# Altium footprint library PartsDatabaseV12.PcbLib: 97 footprints (part 1 of 7)
Each footprint in its own frame and in the unit in brackets; x right, y up, seen from the top. Pads: shape width x height; smd on the part's side, far side on the other; paste and mask are expansions set on the pad; w line width, h text height; cw(c..) or ccw(c..) is an arc to the next point about the centre after c.
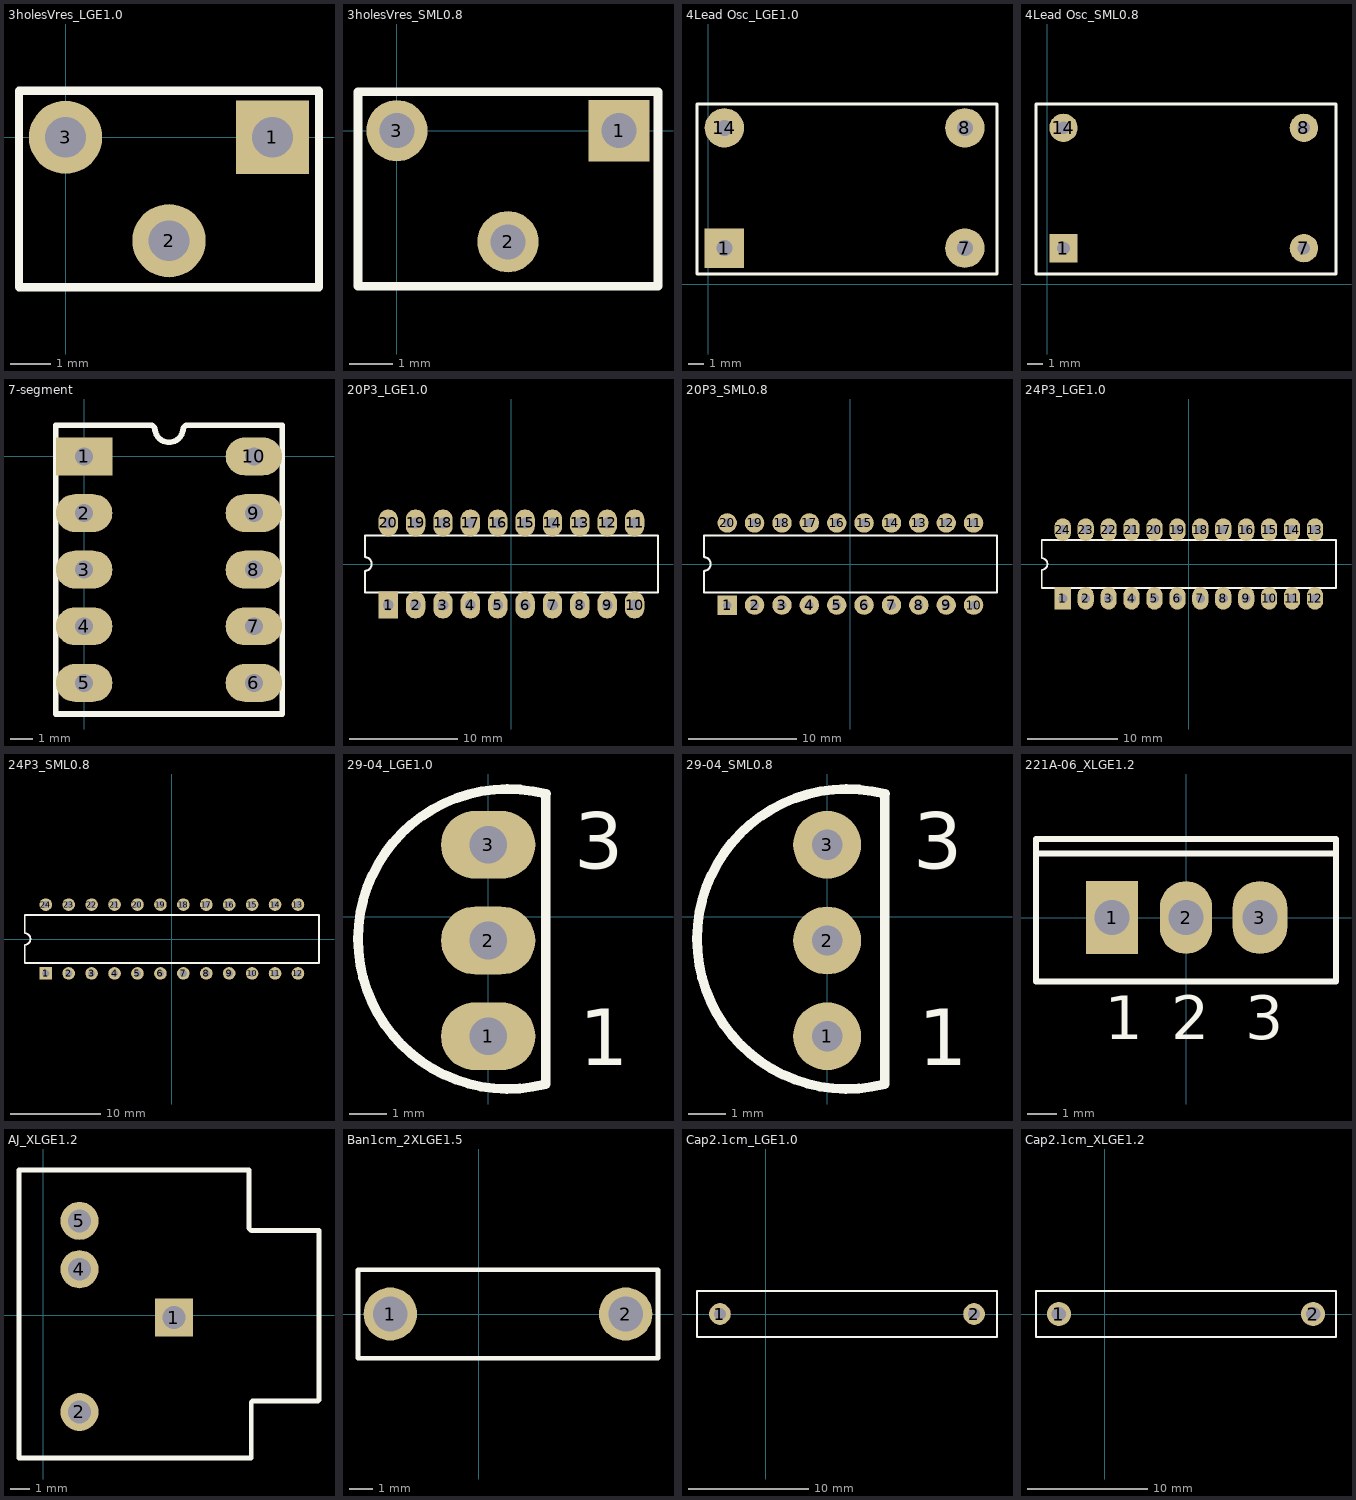
[diagram p0: the footprints below, top view; thin cyan lines are the x and y axes]

## 3holesVres_LGE1.0 [mm] "Variable Resistor, Thru-Hole; 3 Leads"
pads (3):
  rect 1.8x1.8 hole 1: 1(5.08,0)
  round 1.8 hole 1: 2(2.54,-2.54) 3(0,0)
Top Overlay:
  lines w0.2: -1.143,-3.683 6.223,-3.683 6.223,1.143 -1.143,1.143 -1.143,-3.683

## 3holesVres_SML0.8 [mm] "Variable Resistor, Thru-Hole; 3 Leads"
pads (3):
  rect 1.4x1.4 hole 0.8: 1(5.08,0)
  round 1.4 hole 0.8: 2(2.54,-2.54) 3(0,0)
Top Overlay:
  lines w0.2: -0.889,-3.556 5.969,-3.556 5.969,0.889 -0.889,0.889 -0.889,-3.556

## 4Lead Osc_LGE1.0 [mm] "Double-Pole, Single-Throw Switch; 4 Leads"
pads (4):
  rect 2.5x2.5 hole 1: 1(1.016,2.286)
  round 2.5 hole 1: 7(16.256,2.286) 8(16.256,9.906) 14(1.016,9.906)
Top Overlay:
  lines w0.2: -0.724,0.635 -0.724,11.43 18.288,11.43 18.288,0.635 -0.724,0.635

## 4Lead Osc_SML0.8 [mm] "Double-Pole, Single-Throw Switch; 4 Leads"
pads (4):
  rect 1.8x1.8 hole 0.8: 1(1.016,2.286)
  round 1.8 hole 0.8: 7(16.256,2.286) 8(16.256,9.906) 14(1.016,9.906)
Top Overlay:
  lines w0.2: -0.724,0.635 -0.724,11.43 18.288,11.43 18.288,0.635 -0.724,0.635

## 7-segment [mm]
pads (10):
  rect 2.54x1.7 hole 0.8: 1(0,0)
  oval 2.54x1.7 hole 0.8: 2(0,-2.54) 3(0,-5.08) 4(0,-7.62) 5(0,-10.16) 6(7.62,-10.16) 7(7.62,-7.62) 8(7.62,-5.08) 9(7.62,-2.54) 10(7.62,0)
Top Overlay:
  lines w0.254: -1.27,-11.557 -1.27,1.397 3.048,1.397 3.175,1.27 ccw(c3.81,1.27) 4.445,1.27 4.572,1.397 8.89,1.397 8.89,-11.557 -1.27,-11.557

## 20P3_LGE1.0 [mm] "DIP; 20 Leads; Row Spacing 7.62 mm; Pitch 2.54 mm"
height 5.33
pads (20):
  rect 1.8x2.5 hole 1: 1(-11.43,-3.81)
  oval 1.8x2.5 hole 1: 2(-8.89,-3.81) 3(-6.35,-3.81) 4(-3.81,-3.81) 5(-1.27,-3.81) 6(1.27,-3.81) 7(3.81,-3.81) 8(6.35,-3.81) 9(8.89,-3.81) 10(11.43,-3.81) 11(11.43,3.81) 12(8.89,3.81) 13(6.35,3.81) 14(3.81,3.81) 15(1.27,3.81) 16(-1.27,3.81) 17(-3.81,3.81) 18(-6.35,3.81) 19(-8.89,3.81) 20(-11.43,3.81)
Top Overlay:
  lines w0.2: -13.6,-2.65 13.6,-2.65 13.6,2.65 -13.6,2.65 -13.6,0.635 cw(c-13.6,0) -13.6,-0.635 -13.6,-2.65

## 20P3_SML0.8 [mm] "DIP; 20 Leads; Row Spacing 7.62 mm; Pitch 2.54 mm"
height 5.33
pads (20):
  rect 1.8x1.8 hole 0.8: 1(-11.43,-3.81)
  round 1.8 hole 0.8: 2(-8.89,-3.81) 3(-6.35,-3.81) 4(-3.81,-3.81) 5(-1.27,-3.81) 6(1.27,-3.81) 7(3.81,-3.81) 8(6.35,-3.81) 9(8.89,-3.81) 10(11.43,-3.81) 11(11.43,3.81) 12(8.89,3.81) 13(6.35,3.81) 14(3.81,3.81) 15(1.27,3.81) 16(-1.27,3.81) 17(-3.81,3.81) 18(-6.35,3.81) 19(-8.89,3.81) 20(-11.43,3.81)
Top Overlay:
  lines w0.2: -13.6,-2.65 -13.6,-0.635 ccw(c-13.6,0) -13.6,0.635 -13.6,2.65 13.6,2.65 13.6,-2.65 -13.6,-2.65

## 24P3_LGE1.0 [mm] "DIP; 24 Leads; Row Spacing 7.62 mm; Pitch 2.54 mm"
height 5.08
pads (24):
  rect 1.8x2.5 hole 1: 1(-13.97,-3.81)
  oval 1.8x2.5 hole 1: 2(-11.43,-3.81) 3(-8.89,-3.81) 4(-6.35,-3.81) 5(-3.81,-3.81) 6(-1.27,-3.81) 7(1.27,-3.81) 8(3.81,-3.81) 9(6.35,-3.81) 10(8.89,-3.81) 11(11.43,-3.81) 12(13.97,-3.81) 13(13.97,3.81) 14(11.43,3.81) 15(8.89,3.81) 16(6.35,3.81) 17(3.81,3.81) 18(1.27,3.81) 19(-1.27,3.81) 20(-3.81,3.81) 21(-6.35,3.81) 22(-8.89,3.81) 23(-11.43,3.81) 24(-13.97,3.81)
Top Overlay:
  lines w0.2: -16.3,-2.65 16.3,-2.65 16.3,2.65 -16.3,2.65 -16.3,0.635 cw(c-16.3,0) -16.3,-0.635 -16.3,-2.65

## 24P3_SML0.8 [mm] "DIP; 24 Leads; Row Spacing 7.62 mm; Pitch 2.54 mm"
height 5.08
pads (24):
  rect 1.4x1.4 hole 0.8: 1(-13.97,-3.81)
  round 1.4 hole 0.8: 2(-11.43,-3.81) 3(-8.89,-3.81) 4(-6.35,-3.81) 5(-3.81,-3.81) 6(-1.27,-3.81) 7(1.27,-3.81) 8(3.81,-3.81) 9(6.35,-3.81) 10(8.89,-3.81) 11(11.43,-3.81) 12(13.97,-3.81) 13(13.97,3.81) 14(11.43,3.81) 15(8.89,3.81) 16(6.35,3.81) 17(3.81,3.81) 18(1.27,3.81) 19(-1.27,3.81) 20(-3.81,3.81) 21(-6.35,3.81) 22(-8.89,3.81) 23(-11.43,3.81) 24(-13.97,3.81)
Top Overlay:
  lines w0.2: -16.3,-2.65 -16.3,-0.635 ccw(c-16.3,0) -16.3,0.635 -16.3,2.65 16.3,2.65 16.3,-2.65 -16.3,-2.65

## 29-04_LGE1.0 [mm] "TO, Flat Index; 3 In-Line, Axial Leads; Body Dia. 4.8mm; Leads 0.48 x 0.5 mm (max)"
height 5.33
pads (3):
  oval 2.5x1.8 hole 1: 1(0,-3.175) 2(0,-0.635) 3(0,1.905)
Top Overlay:
  lines w0.254: 1.524,3.215 1.524,-4.445 cw(c0.526,-0.595) 1.534,3.253
  text "1" at 2.413,-3.937 h1.5
  text "3" at 2.286,1.27 h1.5

## 29-04_SML0.8 [mm] "TO, Flat Index; 3 In-Line, Axial Leads; Body Dia. 4.8mm; Leads 0.48 x 0.5 mm (max)"
height 5.33
pads (3):
  round 1.8 hole 0.8: 1(0,-3.175) 2(0,-0.635) 3(0,1.905)
Top Overlay:
  lines w0.254: 1.524,3.215 1.524,-4.445 cw(c0.526,-0.595) 1.534,3.253
  text "1" at 2.413,-3.937 h1.5
  text "3" at 2.286,1.27 h1.5

## 221A-06_XLGE1.2 [mm] "TO, Thru-Hole, Vertical, Heatsink Mounted; 3 In-Line Leads; Pitch 2.54 mm"
height 19.7
pads (3):
  rect 1.8x2.5 hole 1.2: 1(-2.54,0)
  oval 1.8x2.5 hole 1.2: 2(0,0)
  oval 1.88x2.5 hole 1.2: 3(2.54,0)
Top Overlay:
  lines w0.2: -5.15,2.2 5.15,2.2 ; -5.15,-2.2 5.15,-2.2 5.15,2.7 -5.15,2.7 -5.15,-2.2
  text "1" at -2.79,-4.175 h1.5
  text "2" at -0.5,-4.175 h1.5
  text "3" at 2.04,-4.175 h1.5

## AJ_XLGE1.2 [mm] "Audio Jack, PCB Mount"
pads (4):
  rect 2x2 hole 1.2: 1(6.858,-0.127)
  round 2 hole 1.2: 2(1.905,-5.08) 4(1.905,2.413) 5(1.905,4.953)
Top Overlay:
  lines w0.254: -1.27,-7.493 -1.27,7.62 10.795,7.62 10.795,4.572 10.922,4.445 14.478,4.445 14.478,-4.445 14.423,-4.5 12.192,-4.5 10.994,-4.5 10.922,-4.572 10.922,-7.493 -1.27,-7.493

## Ban1cm_2XLGE1.5 [mm] "Banana plug fem, Thru-Hole; 2 Leads"
pads (2):
  round 2.3 hole 1.5: 1(-3.81,0) 2(6.35,0)
Top Overlay:
  lines w0.2: -5.207,-1.905 -5.207,1.905 7.747,1.905 7.747,-1.905 -5.207,-1.905

## Cap2.1cm_LGE1.0 [mm] "Radial Cap, Thru-Hole; 2 Leads"
height 6
pads (2):
  round 1.8 hole 1: 1(-3.81,0) 2(17.272,0)
Top Overlay:
  lines w0.2: -5.715,-1.905 19.177,-1.905 19.177,1.905 -5.715,1.905 -5.715,-1.905

## Cap2.1cm_XLGE1.2 [mm] "Radial Cap, Thru-Hole; 2 Leads"
height 6
pads (2):
  round 2 hole 1.2: 1(-3.81,0) 2(17.272,0)
Top Overlay:
  lines w0.2: -5.715,-1.905 19.177,-1.905 19.177,1.905 -5.715,1.905 -5.715,-1.905